# Altium schematic symbol library UCDFR Connectors _ Headers.SchLib: 35 symbols
Pins are listed as number, name and electrical type; pins without a type are passive.

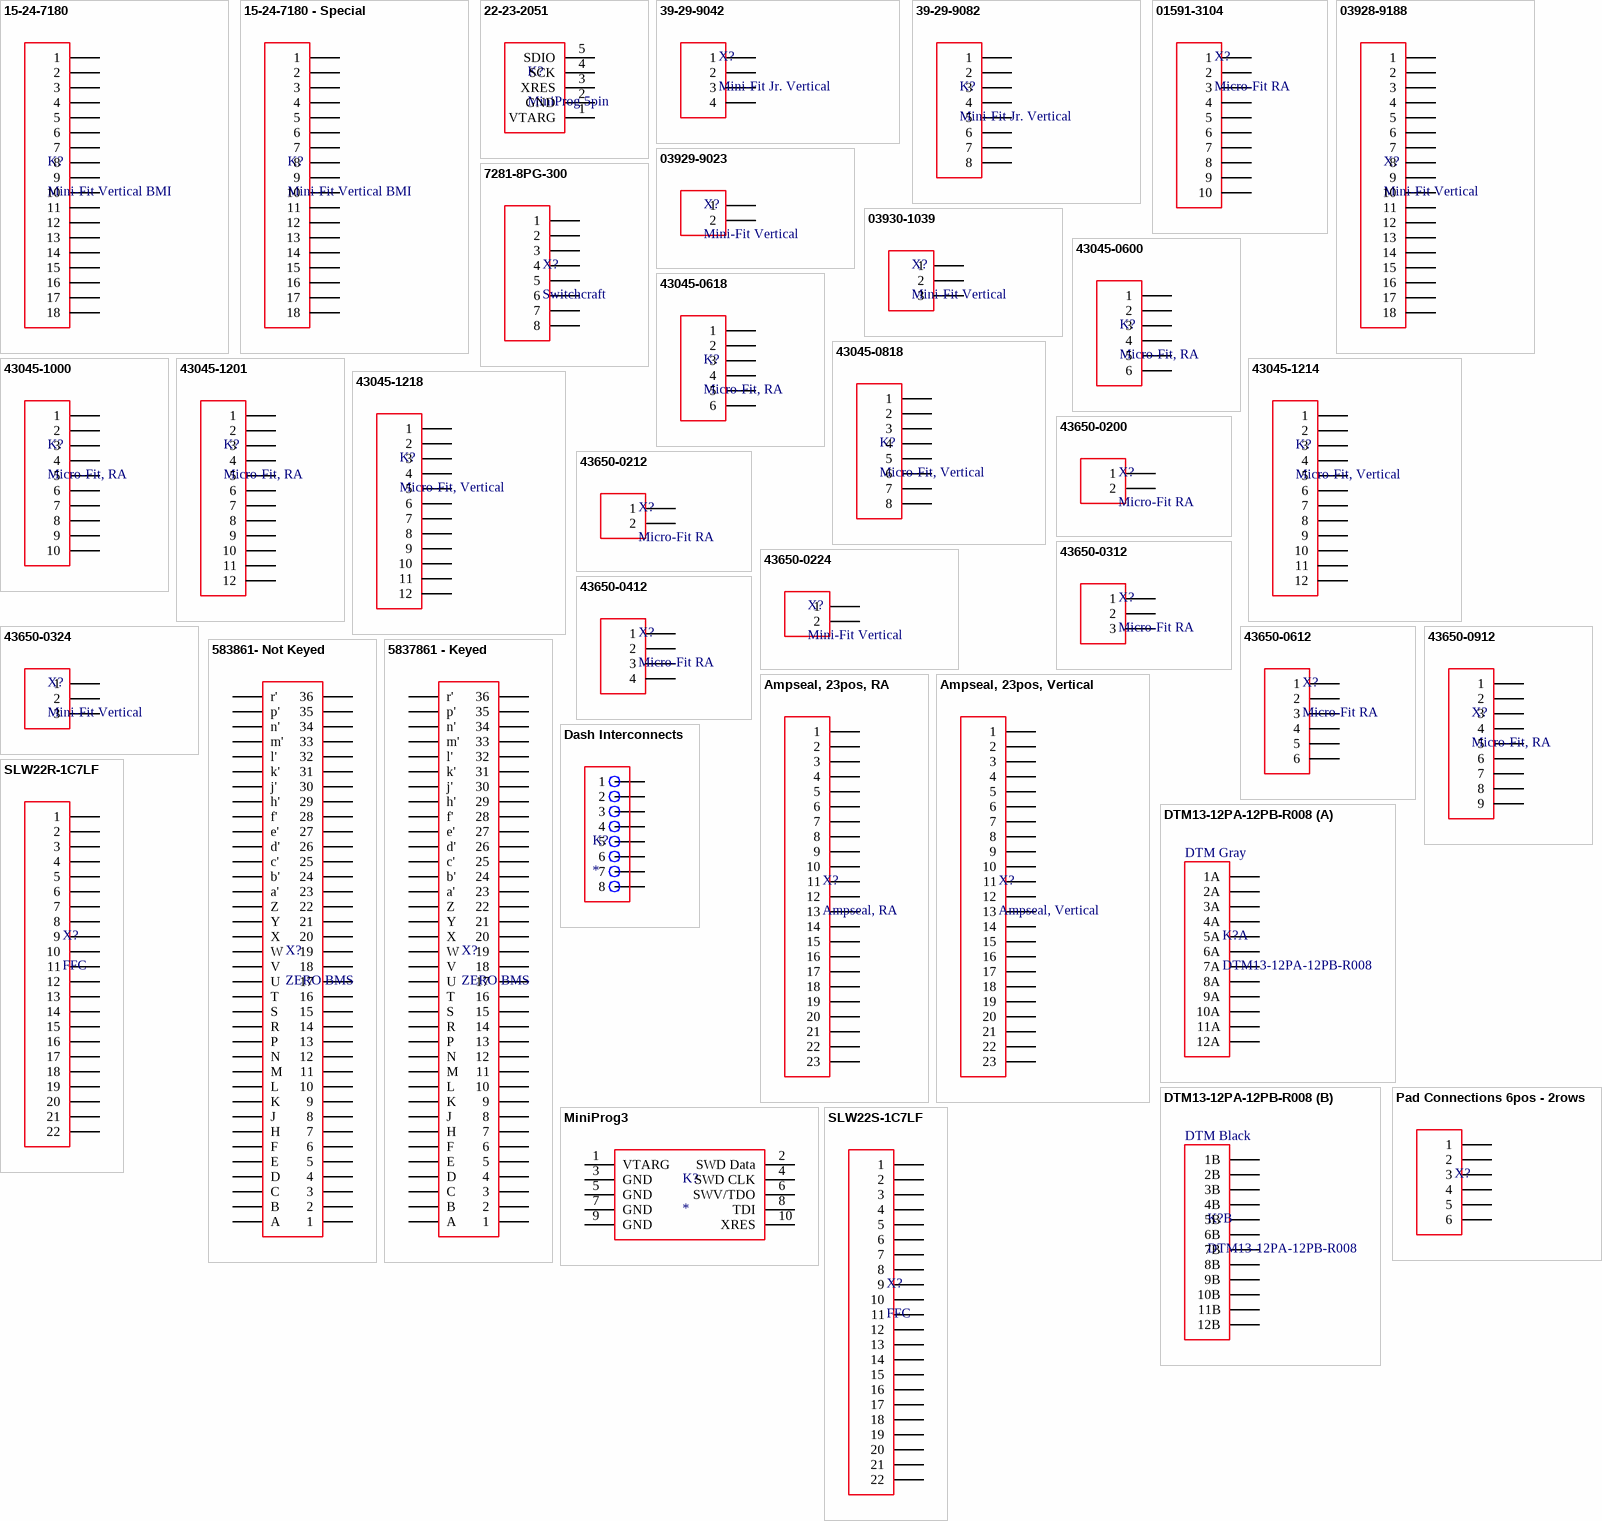
[diagram p0: symbols 15-24-7180 to SLW22S-1C7LF]

## 15-24-7180
designator K?, comment Mini-Fit Vertical BMI
Molex Mini-Fit BMI, 12pos, Vertical, PCB Header; Mfg. PN: 15-24-7180; Manufacturer: Molex; Digi-Key PN: WM17744-ND
footprint 15-24-7180 (Molex Mini-Fit BMI 18pos Vertical PCB Header)
pins: 1, 2, 3, 4, 5, 6, 7, 8, 9, 10, 11, 12, 13, 14, 15, 16, 17, 18

## 15-24-7180 - Special
designator K?, comment Mini-Fit Vertical BMI
Molex Mini-Fit BMI, 12pos, Vertical, PCB Header; Mfg. PN: 15-24-7180; Manufacturer: Molex; Digi-Key PN: WM17744-ND
footprint 15-24-7180 - Special (Molex Mini-Fit BMI 18pos Vertical PCB Header)
pins: 1, 2, 3, 4, 5, 6, 7, 8, 9, 10, 11, 12, 13, 14, 15, 16, 17, 18

## 22-23-2051
designator K?, comment MiniProg 5pin
MiniProg3 5pin Header, Molex, 22-23-2051; Manufacturer: Molex; Mfg. PN: 22-23-2051; Digi-Key PN: WM4203-ND
footprint MINIPROG3 (5-pin) (Molex 22-23-2051)
pins: 1 VTARG, 2 GND, 3 XRES, 4 SCK, 5 SDIO

## 39-29-9042
designator X?, comment Mini-Fit Jr. Vertical
Molex Mini-Fit Jr., 8pos, Vertical, PCB Header; Manufacturer: Molex; Mfg. PN: 39-29-9042; Digi-Key PN: WM7325-ND
footprint 39-29-9042 (Molex Mini-Fit Jr. 4pos Vertical PCB Header)
pins: 1, 2, 3, 4

## 39-29-9082
designator K?, comment Mini-Fit Jr. Vertical
Molex Mini-Fit Jr., 8pos, Vertical, PCB Header; Mfg. PN: 39-29-9082; Manufacturer: Molex; Digi-Key PN: WM7327-ND
footprint 39-29-9082 (Molex Mini-Fit Jr. 8pos Vertical PCB Header)
pins: 1, 2, 3, 4, 5, 6, 7, 8

## 01591-3104
designator X?, comment Micro-Fit RA
Molex C-Grid SL, 10pos, Right Angle, PCB SMD; Mfg. PN: 015913104; Manufacturer: Molex; Digi-Key PN: WM1383-ND
footprint 015913104 (Molex C-Grid SL, 10-pin Right Angle Receptacle SMD)
pins: 1, 2, 3, 4, 5, 6, 7, 8, 9, 10

## 03928-9188
designator X?, comment Mini-Fit Vertical
Molex Mini-Fit Jr., 18pos, Vertical; Mfg. PN: 03928-9188; Digi-Key PN: WM3840-ND; Manufacturer: Molex
footprint 03928-9188 (Molex Mini-Fit Jr. 18pos, Vertical)
pins: 1, 2, 3, 4, 5, 6, 7, 8, 9, 10, 11, 12, 13, 14, 15, 16, 17, 18

## 03929-9023
designator X?, comment Mini-Fit Vertical
Molex Mini-Fit Jr., 2pos, Vertical; Mfg. PN: 03929-9023; Digi-Key PN: WM3853-ND; Manufacturer: Molex
footprint 03929-9023 (Molex Mini-Fit Jr. 2pos Vertical)
pins: 1, 2

## 03930-1039
designator X?, comment Mini-Fit Vertical
Molex Mini-Fit Jr., 3pos, Vertical; Mfg. PN: 03930-1039; Digi-Key PN: WM18442-ND; Manufacturer: Molex
footprint 03930-1039 (Molex Mini-Fit Jr., 3pos, Vertical)
pins: 1, 2, 3

## 7281-8PG-300
designator X?, comment Switchcraft
Switchcraft, 8pos, Circular PCB Header; Mfg. PN: 7281-8PG-300; Manufacturer: Switchcraft; Digi-Key PN: SC2037-ND
footprint 7281-8PG-300 (Switchcraft, 8-pin, PCB Header)
pins: 1, 2, 3, 4, 5, 6, 7, 8

## 43045-0600
designator K?, comment Micro-Fit, RA
Molex Micro-Fit 3.0, 6-pin, Right Angle, PCB Header; Mfg. PN: 43045-0600; Manufacturer: Molex; Digi-Key PN: WM1815-ND
footprint 43045-0600 (Molex Micro-Fit 3.0, 6-pin, Right Angle)
pins: 1, 2, 3, 4, 5, 6

## 43045-0618
designator K?, comment Micro-Fit, RA
Molex Micro-Fit 3.0, 6-pin, Vertical, PCB SMD; Mfg. PN: 43045-0618; Manufacturer: Molex; Digi-Key PN: WM1803TR-ND
footprint 43045-0618 (Molex Micro-Fit 3.0 6-pin Vertical Receptacle SMD)
pins: 1, 2, 3, 4, 5, 6

## 43045-0818
designator K?, comment Micro-Fit, Vertical
Molex Micro-Fit 3.0, 8-pin, Vertical, PCB Header; Mfg. PN: 43045-0818; Manufacturer: Molex
footprint 43045-0818 (Molex Micro-Fit 3.0 8-pin Vertical Receptacle SMD)
pins: 1, 2, 3, 4, 5, 6, 7, 8

## 43045-1000
designator K?, comment Micro-Fit, RA
Molex Micro-Fit 3.0, 10-pin, Right Angle, PCB Header; Mfg. PN: 43045-1000; Manufacturer: Molex; Digi-Key PN: WM1817-ND
footprint 43045-1000 (Molex Micro-Fit 3.0, 10-pin, Right Angle)
pins: 1, 2, 3, 4, 5, 6, 7, 8, 9, 10

## 43045-1201
designator K?, comment Micro-Fit, RA
Molex Micro-Fit 3.0, 12pos, Right Angle, PCB Header; Mfg. PN: 43045-1201; Manufacturer: Molex; Digi-Key PN: WM7489-ND
footprint 43045-1201 (Molex Micro-Fit 3.0, 12-pin, Right Angle)
pins: 1, 2, 3, 4, 5, 6, 7, 8, 9, 10, 11, 12

## 43045-1214
designator K?, comment Micro-Fit, Vertical
Molex Micro-Fit 3.0, 12pos, Vertical, PCB Header; Mfg. PN: 43045-1214; Manufacturer: Molex; Digi-Key PN: WM1800-ND
footprint 43045-1214 (Molex Micro-Fit 3.0, 12-pin, Vertical)
pins: 1, 2, 3, 4, 5, 6, 7, 8, 9, 10, 11, 12

## 43045-1218
designator K?, comment Micro-Fit, Vertical
Molex Micro-Fit 3.0, 12pos, Vertical, PCB Header; Mfg. PN: 43045-1218; Manufacturer: Molex; Digi-Key PN: WM1806CT-ND
footprint 43045-1218 (Molex Micro-Fit 3.0 12-pin Vertical Receptacle SMD)
pins: 1, 2, 3, 4, 5, 6, 7, 8, 9, 10, 11, 12

## 43650-0200
designator X?, comment Micro-Fit RA
Molex Micro-Fit 3.0, 2pos, Right Angle, PCB Header; Mfg. PN: 43650-0200; Manufacturer: Molex; Digi-Key PN: WM1860-ND
footprint 43650-0200 (Molex Micro-Fit 3.0 2-pin Right Angle Receptacle)
pins: 1, 2

## 43650-0212
designator X?, comment Micro-Fit RA
Molex Micro-Fit 3.0, 2pos, Right Angle, PCB SMD; Mfg. PN: 43650-0212; Manufacturer: Molex; Digi-Key PN: WM1890CT-ND
footprint 43650-0212 (Molex Micro-Fit 3.0 2-pin Right Angle Receptacle SMD)
pins: 1, 2

## 43650-0224
designator X?, comment Mini-Fit Vertical
Molex Micro-Fit, 2pos, Vertical; Mfg. PN: 43650-0224; Digi-Key PN: WM2627TR-ND; Manufacturer: Molex
footprint 043650-0224 (Molex Micro-Fit 3.0 12-pin Vertical Receptacle SMD)
pins: 1, 2

## 43650-0312
designator X?, comment Micro-Fit RA
Molex Micro-Fit 3.0, 3pos, Right Angle, PCB SMD; Mfg. PN: 43650-0312; Manufacturer: Molex; Digi-Key PN: WM1891CT-ND
footprint 43650-0312 (Molex Micro-Fit 3.0 3-pin Right Angle Receptacle SMD)
pins: 1, 2, 3

## 43650-0324
designator X?, comment Mini-Fit Vertical
Molex Micro-Fit 3.0, 3pos, Vertical SMD; Mfg. PN: 43650-0324; Digi-Key PN: WM2628TR-ND; Manufacturer: Molex
footprint 43650-0324 (Molex Micro-Fit 3.0 3-pin Vertical Receptacle SMD)
pins: 1, 2, 3

## 43650-0412
designator X?, comment Micro-Fit RA
Molex Micro-Fit 3.0, 4pos, Right Angle, PCB SMD; Mfg. PN: 43650-0412; Manufacturer: Molex; Digi-Key PN: WM1892CT-ND
footprint 43650-0412 (Molex Micro-Fit 3.0 4-pin Right Angle Receptacle SMD)
pins: 1, 2, 3, 4

## 43650-0612
designator X?, comment Micro-Fit RA
Molex Micro-Fit 3.0, 6pos, Right Angle, PCB SMD; Mfg. PN: 436500612; Manufacturer: Molex; Digi-Key PN: WM1894CT-ND
footprint 43650-0612 (Molex Micro-Fit 3.0 6-pin Right Angle Receptacle SMD)
pins: 1, 2, 3, 4, 5, 6

## 43650-0912
designator X?, comment Micro-Fit, RA
Molex Micro-Fit 3.0, 9-pin, Right Angle, PCB Header; Mfg. PN: 43650-0912; Manufacturer: Molex; Digi-Key PN: WM2461CT-ND
footprint 43650-0912 (Molex Micro-Fit 3.0 9-pin Right Angle Receptacle SMD)
pins: 1, 2, 3, 4, 5, 6, 7, 8, 9

## 583861- Not Keyed
designator X?, comment ZERO BMS
TE Card Edge, 2.54mm Pitch, 36 Dual Cavities; Configuration: ZERO BMS Hook Ups; Manufacturer: TE
footprint 583861-Not Keyed (TE, 36-pin, Dual Cavity, Card Edge Connector, Unkeyed ZERO Stack)
pins: 1, 2, 3, 4, 5, 6, 7, 8, 9, 10, 11, 12, 13, 14, 15, 16, 17, 18, 19, 20, 21, 22, 23, 24, 25, 26, 27, 28, 29, 30, 31, 32, 33, 34, 35, 36, A, a', B, b', C, c', D, d', E, e', F, f', H, h', J, j', K, k', L, l', M, m', N, n', P, p', R, r', S, T, U, V, W, X, Y, Z

## 5837861 - Keyed
designator X?, comment ZERO BMS
TE Card Edge, 2.54mm Pitch, 36 Dual Cavities; Configuration: ZERO BMS Hook Ups; Manufacturer: TE
footprint 583861-Keyed (TE, 36-pin, Dual Cavity, Card Edge Connector, Keyed ZERO Stack)
pins: 1, 2, 3, 4, 5, 6, 7, 8, 9, 10, 11, 12, 13, 14, 15, 16, 17, 18, 19, 20, 21, 22, 23, 24, 25, 26, 27, 28, 29, 30, 31, 32, 33, 34, 35, 36, A, a', B, b', C, c', D, d', E, e', F, f', H, h', J, j', K, k', L, l', M, m', N, n', P, p', R, r', S, T, U, V, W, X, Y, Z

## Ampseal, 23pos, RA
designator X?, comment Ampseal, RA
TE, Ampseal, 23pos, Right Angle
footprint Ampseal 23pos, RA (Ampseal, 23pos. Right Angle)
pins: 1, 2, 3, 4, 5, 6, 7, 8, 9, 10, 11, 12, 13, 14, 15, 16, 17, 18, 19, 20, 21, 22, 23

## Ampseal, 23pos, Vertical
designator X?, comment Ampseal, Vertical
TE, Ampseal, 23pos, Vertical
footprint AMPESEAL 23POS, Vertical
pins: 1, 2, 3, 4, 5, 6, 7, 8, 9, 10, 11, 12, 13, 14, 15, 16, 17, 18, 19, 20, 21, 22, 23

## Dash Interconnects
designator K?
footprint Dash Interconnects
pins: 1, 2, 3, 4, 5, 6, 7, 8

## DTM13-12PA-12PB-R008
designator K?
24-pin enclosure header; Manufacturer: LADD Distribution; Mfg. PN: DTM13-12PA-12PB-R008
footprint DTM13-12PA-12PB-R008 (Deutsch DTM13-12PA-12PB-R008 EEC Panel)
part A pins: 1A "Pin1", 2A "Pin1", 3A "Pin1", 4A "Pin1", 5A "Pin1", 6A "Pin1", 7A "Pin1", 8A "Pin1", 9A "Pin1", 10A "Pin1", 11A "Pin1", 12A "Pin1"
part B pins: 1B "Pin1", 2B "Pin1", 3B "Pin1", 4B "Pin1", 5B "Pin1", 6B "Pin1", 7B "Pin1", 8B "Pin1", 9B "Pin1", 10B "Pin1", 11B "Pin1", 12B "Pin1"
part A text: DTM Gray
part B text: DTM Black

## MiniProg3
designator K?
Samtec, 10-pin, PCB Header; Manufacturer: Samtec Inc.; Mfg. PN: FTSH-105-01-L-DV-K; Digi-Key PN: FTSH-105-01-L-DV-K-ND
footprint MiniProg3 (Samtech, FTSH-105-01-L-DV-K)
pins: 1 VTARG, 2 SWD Data, 3 GND, 4 SWD CLK, 5 GND, 6 SWV/TDO, 7 GND, 8 TDI, 9 GND, 10 XRES

## Pad Connections 6pos - 2rows
designator X?  (value not drawn)
footprint Pad Connections 6pos - 2rows
pins: 1, 2, 3, 4, 5, 6

## SLW22R-1C7LF
designator X?, comment FFC
FCI, FFC, 22-pin, 1mm PCB Header; Mfg. PN: SLW22R-1C7LF; Manufacturer: FCI; Digi-Key PN: 609-1950-ND
footprint SLW22R-1C7LF (FCI, 22-pin FFC)
pins: 1, 2, 3, 4, 5, 6, 7, 8, 9, 10, 11, 12, 13, 14, 15, 16, 17, 18, 19, 20, 21, 22

## SLW22S-1C7LF
designator X?, comment FFC
FCI, FFC, 22-pin, 1mm Vertical PCB Header; Mfg. PN: SLW22S-1C7LF; Manufacturer: FCI; Digi-Key PN: 609-1951-ND
footprint SLW22S-1C7LF (FCI, 22-pin FFC, Vertical)
pins: 1, 2, 3, 4, 5, 6, 7, 8, 9, 10, 11, 12, 13, 14, 15, 16, 17, 18, 19, 20, 21, 22